# EAGLE library part FPC-23WAY (library pimoroni-fpc)
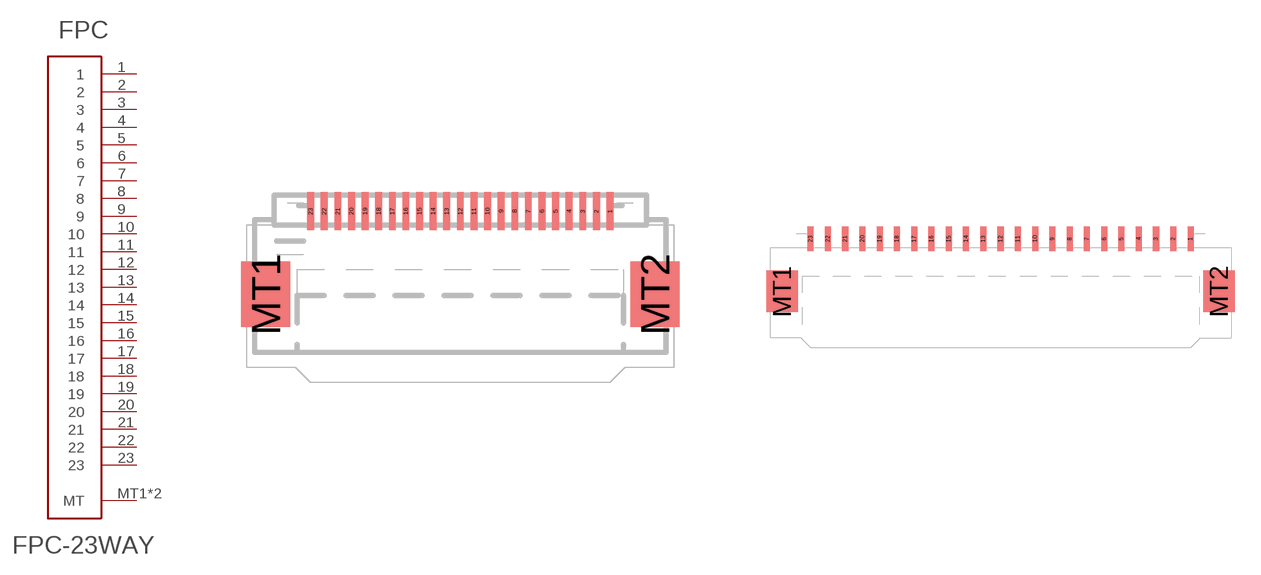
[diagram p18: symbol with the pads of FPC-0.5MM-23WAY; footprints FPC-0.5MM-23WAY, FPC-1.0MM-23WAY]

Designator prefix FPC

## FPC-23WAY0.5  [FPC-0.5MM-23WAY]
1  1
2  2
3  3
4  4
5  5
6  6
7  7
8  8
9  9
10  10
11  11
12  12
13  13
14  14
15  15
16  16
17  17
18  18
19  19
20  20
21  21
22  22
23  23
MT1  MT
MT2  MT

## FPC-23WAY1.0  [FPC-1.0MM-23WAY]
Pads as for FPC-0.5MM-23WAY

## Footprint FPC-0.5MM-23WAY (pad centres in mm)
smd 0.25 x 1.4: 1 5.5,0.7; 2 5,0.7; 3 4.5,0.7; 4 4,0.7; 5 3.5,0.7; 6 3,0.7; 7 2.5,0.7; 8 2,0.7; 9 1.5,0.7; 10 1,0.7; 11 0.5,0.7; 12 0,0.7; 13 -0.5,0.7; 14 -1,0.7; 15 -1.5,0.7; 16 -2,0.7; 17 -2.5,0.7; 18 -3,0.7; 19 -3.5,0.7; 20 -4,0.7; 21 -4.5,0.7; 22 -5,0.7; 23 -5.5,0.7
smd 1.8 x 2.4: MT1 -7.15,-2.35; MT2 7.15,-2.35

## Footprint FPC-1.0MM-23WAY (pad centres in mm)
smd 0.35 x 1.4: 1 11,0.7; 2 10,0.7; 3 9,0.7; 4 8,0.7; 5 7,0.7; 6 6,0.7; 7 5,0.7; 8 4,0.7; 9 3,0.7; 10 2,0.7; 11 1,0.7; 12 0,0.7; 13 -1,0.7; 14 -2,0.7; 15 -3,0.7; 16 -4,0.7; 17 -5,0.7; 18 -6,0.7; 19 -7,0.7; 20 -8,0.7; 21 -9,0.7; 22 -10,0.7; 23 -11,0.7
smd 1.8 x 2.4: MT1 -12.65,-2.35; MT2 12.65,-2.35